# Altium schematic symbol library Custom_SCH_Library.SchLib: 1 symbol
Pins are listed as number, name and electrical type; pins without a type are passive.

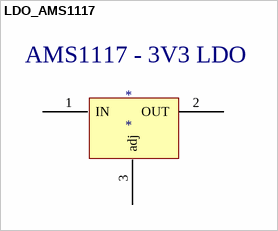
[diagram p0: symbol LDO_AMS1117]

## LDO_AMS1117
designator *
footprint PCBComponent_1
pins: 1 IN (power), 2 OUT (power), 3 adj (power)
text: AMS1117 - 3V3 LDO